# EAGLE library part IL300 (library 029000100  -  gKEagleLibrary)
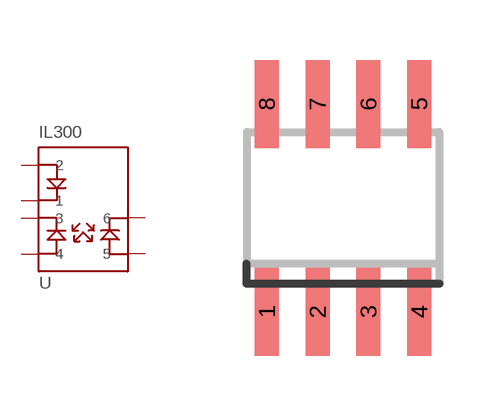
[diagram p13: symbol with the pads of SO08; footprint SO08]

Designator prefix -

## IL300  [SO08]
1  2
2  1
3  5
4  6
5  3
6  4
7  P$7  nc
8  P$8  nc

## Footprint SO08 (pad centres in mm)
smd 0.6 x 2.2: 1 -1.905,-2.6; 2 -0.635,-2.6; 3 0.635,-2.6; 4 1.905,-2.6; 5 1.905,2.6; 6 0.635,2.6; 7 -0.635,2.6; 8 -1.905,2.6